# Altium footprint library streetbot.PcbLib: 55 footprints (part 4 of 4)
Each footprint in its own frame and in the unit in brackets; x right, y up, seen from the top. Pads: shape width x height; smd on the part's side, far side on the other; paste and mask are expansions set on the pad; w line width, h text height; cw(c..) or ccw(c..) is an arc to the next point about the centre after c.
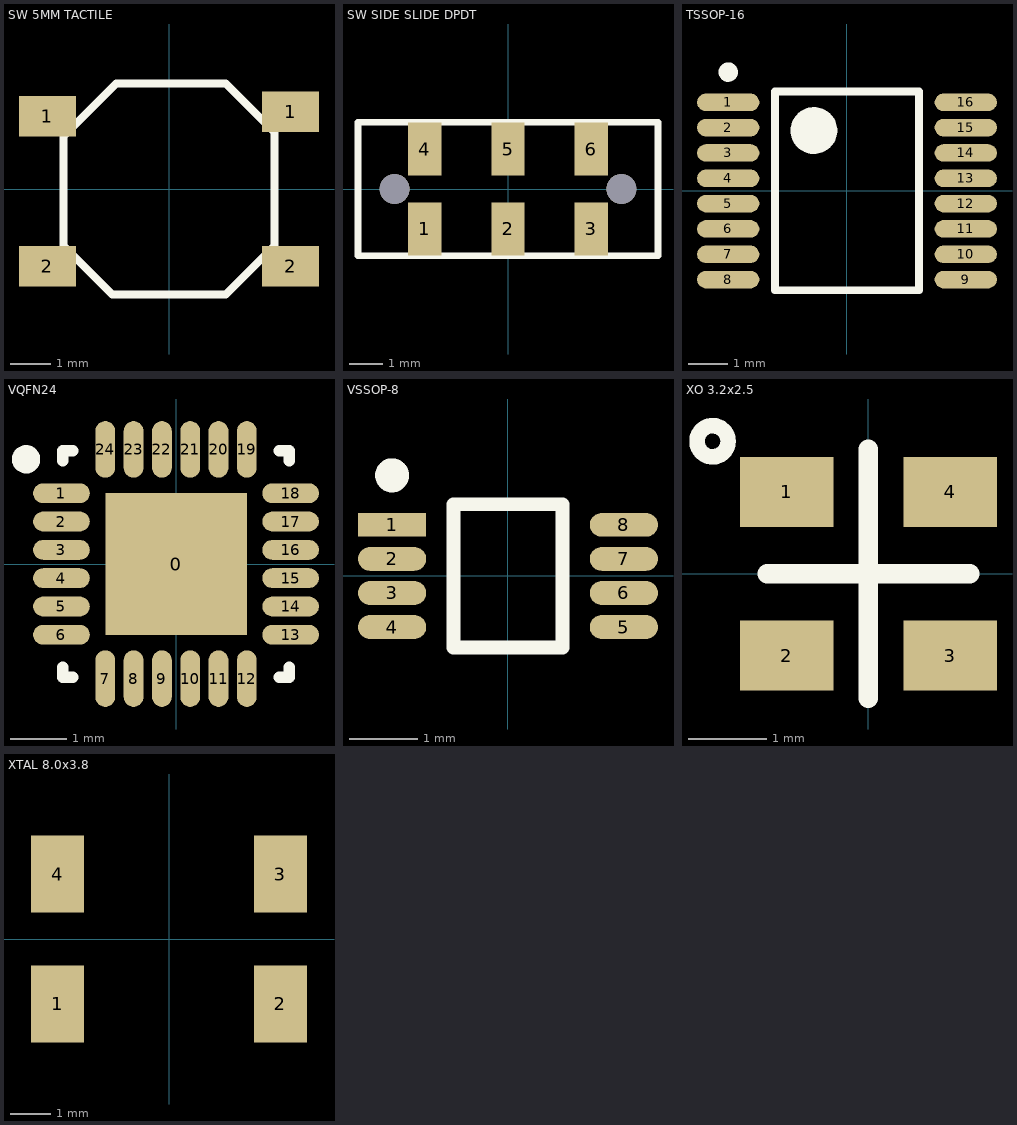
[diagram p3: the footprints below, top view; thin cyan lines are the x and y axes]

## SW 5MM TACTILE [mm]
pads (4):
  rect 1.4x1 smd: 1(-3,1.8) 1(3,1.9) 2(-3,-1.9) 2(3,-1.9)
Top Overlay:
  lines w0.2: -2.6,-1.4 -2.6,1.3 -1.3,2.6 1.4,2.6 2.6,1.4 2.6,-1.4 1.4,-2.6 -1.4,-2.6 -2.6,-1.4
3D body "Tactal Switch - SMD (5mmx 5mmx1.5mm).stp": height 1.5, standoff 0, extent -3.289,-2.55 3.29,2.55

## SW SIDE SLIDE DPDT [mm]
pads (8):
  rect 1x1.6 smd: 1(-2.5,-1.2) 2(0,-1.2) 3(2.5,-1.2) 4(-2.5,1.2) 5(0,1.2) 6(2.5,1.2)
  round 0.9 hole 0.9 unplated: ""(-3.4,0) ""(3.4,0)
Top Overlay:
  lines w0.2: -4.5,-2 4.5,-2 4.5,2 -4.5,2 -4.5,-2
3D body "JS202011JAQN.stp": height 3.51, standoff -0.79, extent -4.5,-3.75 4.5,1.8

## TSSOP-16 [mm] "TSOP, 16-Leads, Body 5.00x4.40mm, Pitch 0.65mm, IPC Low Density"
height 1.1
pads (16):
  oval 1.6x0.45 smd: 1(-3.05,2.275) 2(-3.05,1.625) 3(-3.05,0.975) 4(-3.05,0.325) 5(-3.05,-0.325) 6(-3.05,-0.975) 7(-3.05,-1.625) 8(-3.05,-2.275) 9(3.05,-2.275) 10(3.05,-1.625) 11(3.05,-0.975) 12(3.05,-0.325) 13(3.05,0.325) 14(3.05,0.975) 15(3.05,1.625) 16(3.05,2.275)
Top Overlay:
  circle w0.6: c-0.85,1.55 r0.3
  circle w0.25: c-3.05,3.05 r0.125
  lines w0.2: -1.85,-2.55 1.85,-2.55 1.85,2.55 -1.85,2.55 -1.85,-2.55
3D body "TSOP65P640X110-16M.step": height 1.1, standoff 0, extent -3.2,-2.55 3.2,2.55

## VQFN24 [mm] "PQFN, 24-Leads, Body 4.00x4.00mm, Pitch 0.50mm, Thermal Pad 2.50x2.50mm, IPC Medium Density"
height 1
pads (25):
  rect 2.5x2.5 smd: 0(0,0)
  oval 1x0.35 smd: 1(-2.025,1.25) 2(-2.025,0.75) 3(-2.025,0.25) 4(-2.025,-0.25) 5(-2.025,-0.75) 6(-2.025,-1.25) 13(2.025,-1.25) 14(2.025,-0.75) 15(2.025,-0.25) 16(2.025,0.25) 17(2.025,0.75) 18(2.025,1.25)
  oval 0.35x1 smd: 7(-1.25,-2.025) 8(-0.75,-2.025) 9(-0.25,-2.025) 10(0.25,-2.025) 11(0.75,-2.025) 12(1.25,-2.025) 19(1.25,2.025) 20(0.75,2.025) 21(0.25,2.025) 22(-0.25,2.025) 23(-0.75,2.025) 24(-1.25,2.025)
Top Overlay:
  circle w0.25: c-2.65,1.85 r0.125
  lines w0.2: -2,-1.825 -2,-2 -1.825,-2 ; -2,1.825 -2,2 -1.825,2 ; 1.825,-2 2,-2 2,-1.825 ; 1.825,2 2,2 2,1.825
3D body "PQFN50P400X400X100_HS-25N.step": height 1, standoff 0, extent -2.5,-2.5 2.5,2.5

## VSSOP-8 [mm] "TSSOP, 8-Leads, Body 2.00x2.30mm, Pitch 0.50mm, IPC Low Density"
height 0.9
pads (8):
  rect 1x0.35 smd: 1(-1.7,0.75)
  oval 1x0.35 smd: 2(-1.7,0.25) 3(-1.7,-0.25) 4(-1.7,-0.75) 5(1.7,-0.75) 6(1.7,-0.25) 7(1.7,0.25) 8(1.7,0.75)
Top Overlay:
  circle w0.25: c-1.7,1.475 r0.125
  lines w0.2: -0.8,-1.05 -0.8,1.05 0.8,1.05 0.8,-1.05 -0.8,-1.05
3D body "TSSOP50P310X90-8M.step": height 0.9, standoff 0, extent -1.549,-1.05 1.549,1.05

## XO 3.2x2.5 [mm]
pads (4):
  rect 1.2x0.9 smd: 1(-1.05,1.05) 2(-1.05,-1.05) 3(1.05,-1.05) 4(1.05,1.05)
Top Overlay:
  circle w0.2: c-2,1.7 r0.2
  lines w0.25: -1.3,0 1.3,0 ; 0,-1.6 0,1.6
3D body "KX7 SMD Quartz Crystal Resonator 3.2x2.5mm.step": height 0.61, standoff 0.01, extent -1.25,-1.6 1.25,1.6

## XTAL 8.0x3.8 [mm]
pads (4):
  rect 1.3x1.9 smd: 1(-2.75,-1.6) 2(2.75,-1.6) 3(2.75,1.6) 4(-2.75,1.6)
3D body "01_abs25.STEP": height 2.62, standoff -0.01, extent -4,-2.159 4.001,2.159